# Altium schematic symbol library IC-Interface.SchLib: 18 symbols
Pins are listed as number, name and electrical type; pins without a type are passive.

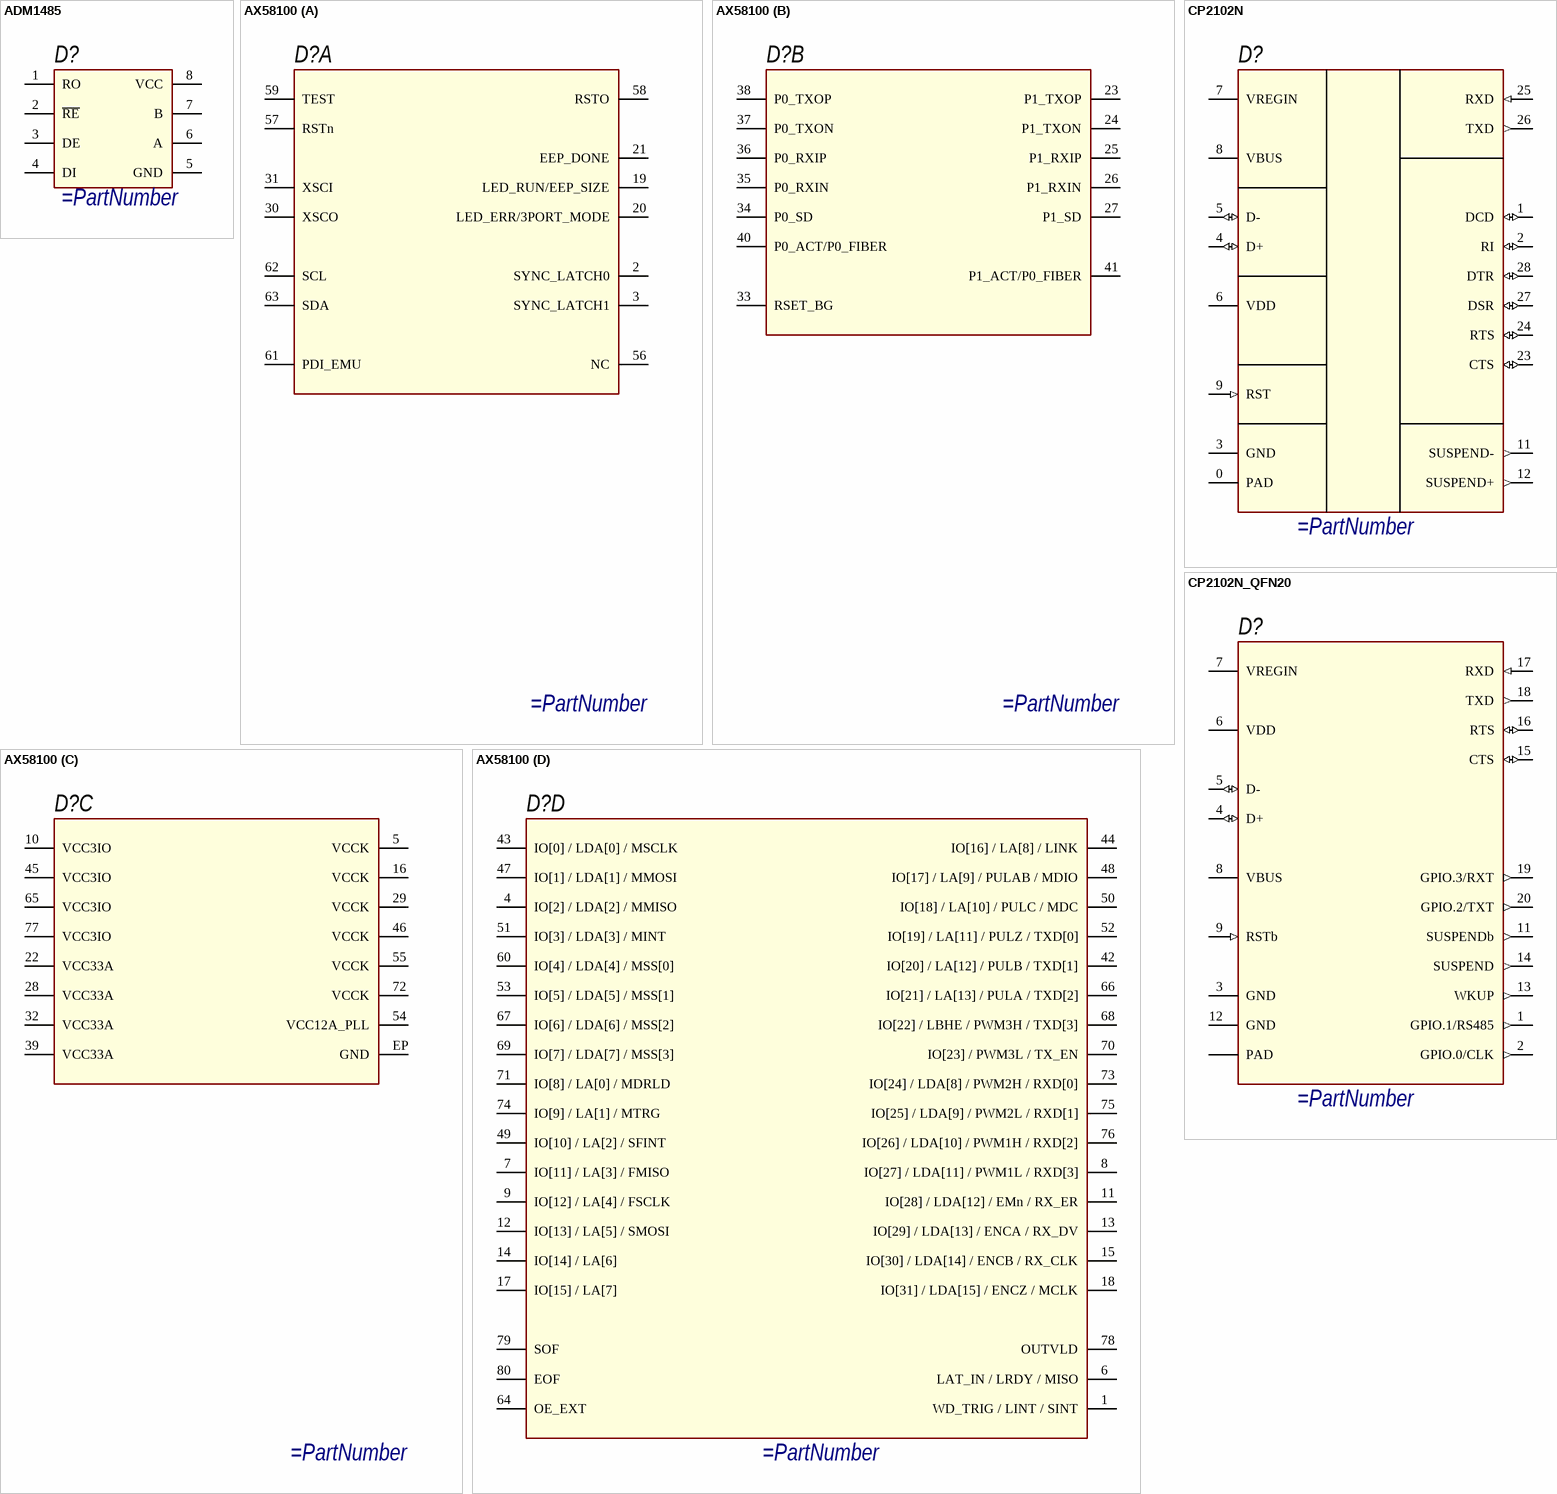
[diagram p0: symbols ADM1485 to CP2102N_QFN20]

## ADM1485
designator D?
pins: 1 RO, 2 ~{RE}, 3 DE, 4 DI, 5 GND, 6 A, 7 B, 8 VCC

## AX58100
designator D?
EtherCAT Slave Controller
part A pins: 2 SYNC_LATCH0, 3 SYNC_LATCH1, 19 LED_RUN/EEP_SIZE, 20 LED_ERR/3PORT_MODE, 21 EEP_DONE, 30 XSCO, 31 XSCI, 56 NC, 57 RSTn, 58 RSTO, 59 TEST, 61 PDI_EMU, 62 SCL, 63 SDA
part B pins: 23 P1_TXOP, 24 P1_TXON, 25 P1_RXIP, 26 P1_RXIN, 27 P1_SD, 33 RSET_BG, 34 P0_SD, 35 P0_RXIN, 36 P0_RXIP, 37 P0_TXON, 38 P0_TXOP, 40 P0_ACT/P0_FIBER, 41 P1_ACT/P0_FIBER
part C pins: 5 VCCK, 10 VCC3IO, 16 VCCK, 22 VCC33A, 28 VCC33A, 29 VCCK, 32 VCC33A, 39 VCC33A, 45 VCC3IO, 46 VCCK, 54 VCC12A_PLL, 55 VCCK, 65 VCC3IO, 72 VCCK, 77 VCC3IO, EP GND
part D pins: 1 WD_TRIG / LINT / SINT, 4 IO[2] / LDA[2] / MMISO, 6 LAT_IN / LRDY / MISO, 7 IO[11] / LA[3] / FMISO, 8 IO[27] / LDA[11] / PWM1L / RXD[3], 9 IO[12] / LA[4] / FSCLK, 11 IO[28] / LDA[12] / EMn / RX_ER, 12 IO[13] / LA[5] / SMOSI, 13 IO[29] / LDA[13] / ENCA / RX_DV, 14 IO[14] / LA[6], 15 IO[30] / LDA[14] / ENCB / RX_CLK, 17 IO[15] / LA[7], 18 IO[31] / LDA[15] / ENCZ / MCLK, 42 IO[20] / LA[12] / PULB / TXD[1], 43 IO[0] / LDA[0] / MSCLK, 44 IO[16] / LA[8] / LINK, 47 IO[1] / LDA[1] / MMOSI, 48 IO[17] / LA[9] / PULAB / MDIO, 49 IO[10] / LA[2] / SFINT, 50 IO[18] / LA[10] / PULC / MDC, 51 IO[3] / LDA[3] / MINT, 52 IO[19] / LA[11] / PULZ / TXD[0], 53 IO[5] / LDA[5] / MSS[1], 60 IO[4] / LDA[4] / MSS[0], 64 OE_EXT, 66 IO[21] / LA[13] / PULA / TXD[2], 67 IO[6] / LDA[6] / MSS[2], 68 IO[22] / LBHE / PWM3H / TXD[3], 69 IO[7] / LDA[7] / MSS[3], 70 IO[23] / PWM3L / TX_EN, 71 IO[8] / LA[0] / MDRLD, 73 IO[24] / LDA[8] / PWM2H / RXD[0], 74 IO[9] / LA[1] / MTRG, 75 IO[25] / LDA[9] / PWM2L / RXD[1], 76 IO[26] / LDA[10] / PWM1H / RXD[2], 78 OUTVLD, 79 SOF, 80 EOF

## CP2102N
designator D?
USB-to-UART
pins: 0 PAD, 1 DCD (io), 2 RI (io), 3 GND, 4 D+ (io), 5 D- (io), 6 VDD, 7 VREGIN, 8 VBUS, 9 RST (in), 11 SUSPEND- (out), 12 SUSPEND+ (out), 23 CTS (io), 24 RTS (io), 25 RXD (in), 26 TXD (out), 27 DSR (io), 28 DTR (io)

## CP2102N_QFN20
designator D?
USB-to-UART
pins: 1 GPIO.1/RS485 (out), 2 GPIO.0/CLK (out), 3 GND, 4 D+ (io), 5 D- (io), 6 VDD, 7 VREGIN, 8 VBUS, 9 RSTb (in), 11 SUSPENDb (out), 12 GND, 13 WKUP (out), 14 SUSPEND (out), 15 CTS (io), 16 RTS (io), 17 RXD (in), 18 TXD (out), 19 GPIO.3/RXT (out), 20 GPIO.2/TXT (out), EP PAD

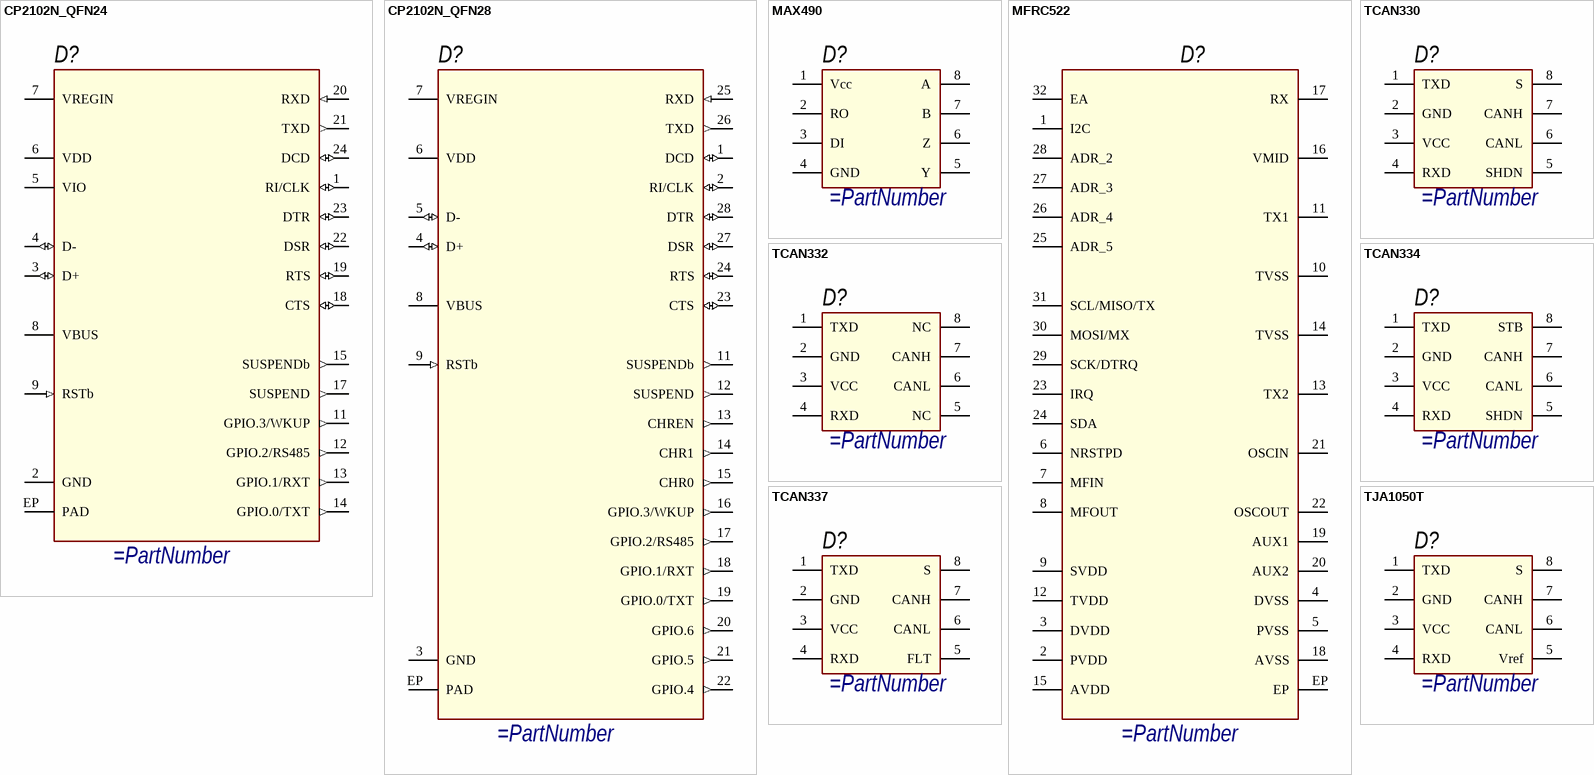
[diagram p1: symbols CP2102N_QFN24 to TJA1050T]

## CP2102N_QFN24
designator D?
USB-to-UART
pins: 1 RI/CLK (io), 2 GND, 3 D+ (io), 4 D- (io), 5 VIO, 6 VDD, 7 VREGIN, 8 VBUS, 9 RSTb (in), 11 GPIO.3/WKUP (out), 12 GPIO.2/RS485 (out), 13 GPIO.1/RXT (out), 14 GPIO.0/TXT (out), 15 SUSPENDb (out), 17 SUSPEND (out), 18 CTS (io), 19 RTS (io), 20 RXD (in), 21 TXD (out), 22 DSR (io), 23 DTR (io), 24 DCD (io), EP PAD

## CP2102N_QFN28
designator D?
USB-to-UART
pins: 1 DCD (io), 2 RI/CLK (io), 3 GND, 4 D+ (io), 5 D- (io), 6 VDD, 7 VREGIN, 8 VBUS, 9 RSTb (in), 11 SUSPENDb (out), 12 SUSPEND (out), 13 CHREN (out), 14 CHR1 (out), 15 CHR0 (out), 16 GPIO.3/WKUP (out), 17 GPIO.2/RS485 (out), 18 GPIO.1/RXT (out), 19 GPIO.0/TXT (out), 20 GPIO.6 (out), 21 GPIO.5 (out), 22 GPIO.4 (out), 23 CTS (io), 24 RTS (io), 25 RXD (in), 26 TXD (out), 27 DSR (io), 28 DTR (io), EP PAD

## MAX490
designator D?
pins: 1 Vcc, 2 RO, 3 DI, 4 GND, 5 Y, 6 Z, 7 B, 8 A

## MFRC522
designator D?
Standard performance MIFARE and NTAG frontend
pins: 1 I2C, 2 PVDD, 3 DVDD, 4 DVSS, 5 PVSS, 6 NRSTPD, 7 MFIN, 8 MFOUT, 9 SVDD, 10 TVSS, 11 TX1, 12 TVDD, 13 TX2, 14 TVSS, 15 AVDD, 16 VMID, 17 RX, 18 AVSS, 19 AUX1, 20 AUX2, 21 OSCIN, 22 OSCOUT, 23 IRQ, 24 SDA, 25 ADR_5, 26 ADR_4, 27 ADR_3, 28 ADR_2, 29 SCK/DTRQ, 30 MOSI/MX, 31 SCL/MISO/TX, 32 EA, EP

## TCAN330
designator D?
CAN transceiver
pins: 1 TXD, 2 GND, 3 VCC, 4 RXD, 5 SHDN, 6 CANL, 7 CANH, 8 S

## TCAN332
designator D?
CAN transceiver
pins: 1 TXD, 2 GND, 3 VCC, 4 RXD, 5 NC, 6 CANL, 7 CANH, 8 NC

## TCAN334
designator D?
CAN transceiver
pins: 1 TXD, 2 GND, 3 VCC, 4 RXD, 5 SHDN, 6 CANL, 7 CANH, 8 STB

## TCAN337
designator D?
CAN transceiver
pins: 1 TXD, 2 GND, 3 VCC, 4 RXD, 5 FLT, 6 CANL, 7 CANH, 8 S

## TJA1050T
designator D?
CAN transceiver
pins: 1 TXD, 2 GND, 3 VCC, 4 RXD, 5 Vref, 6 CANL, 7 CANH, 8 S

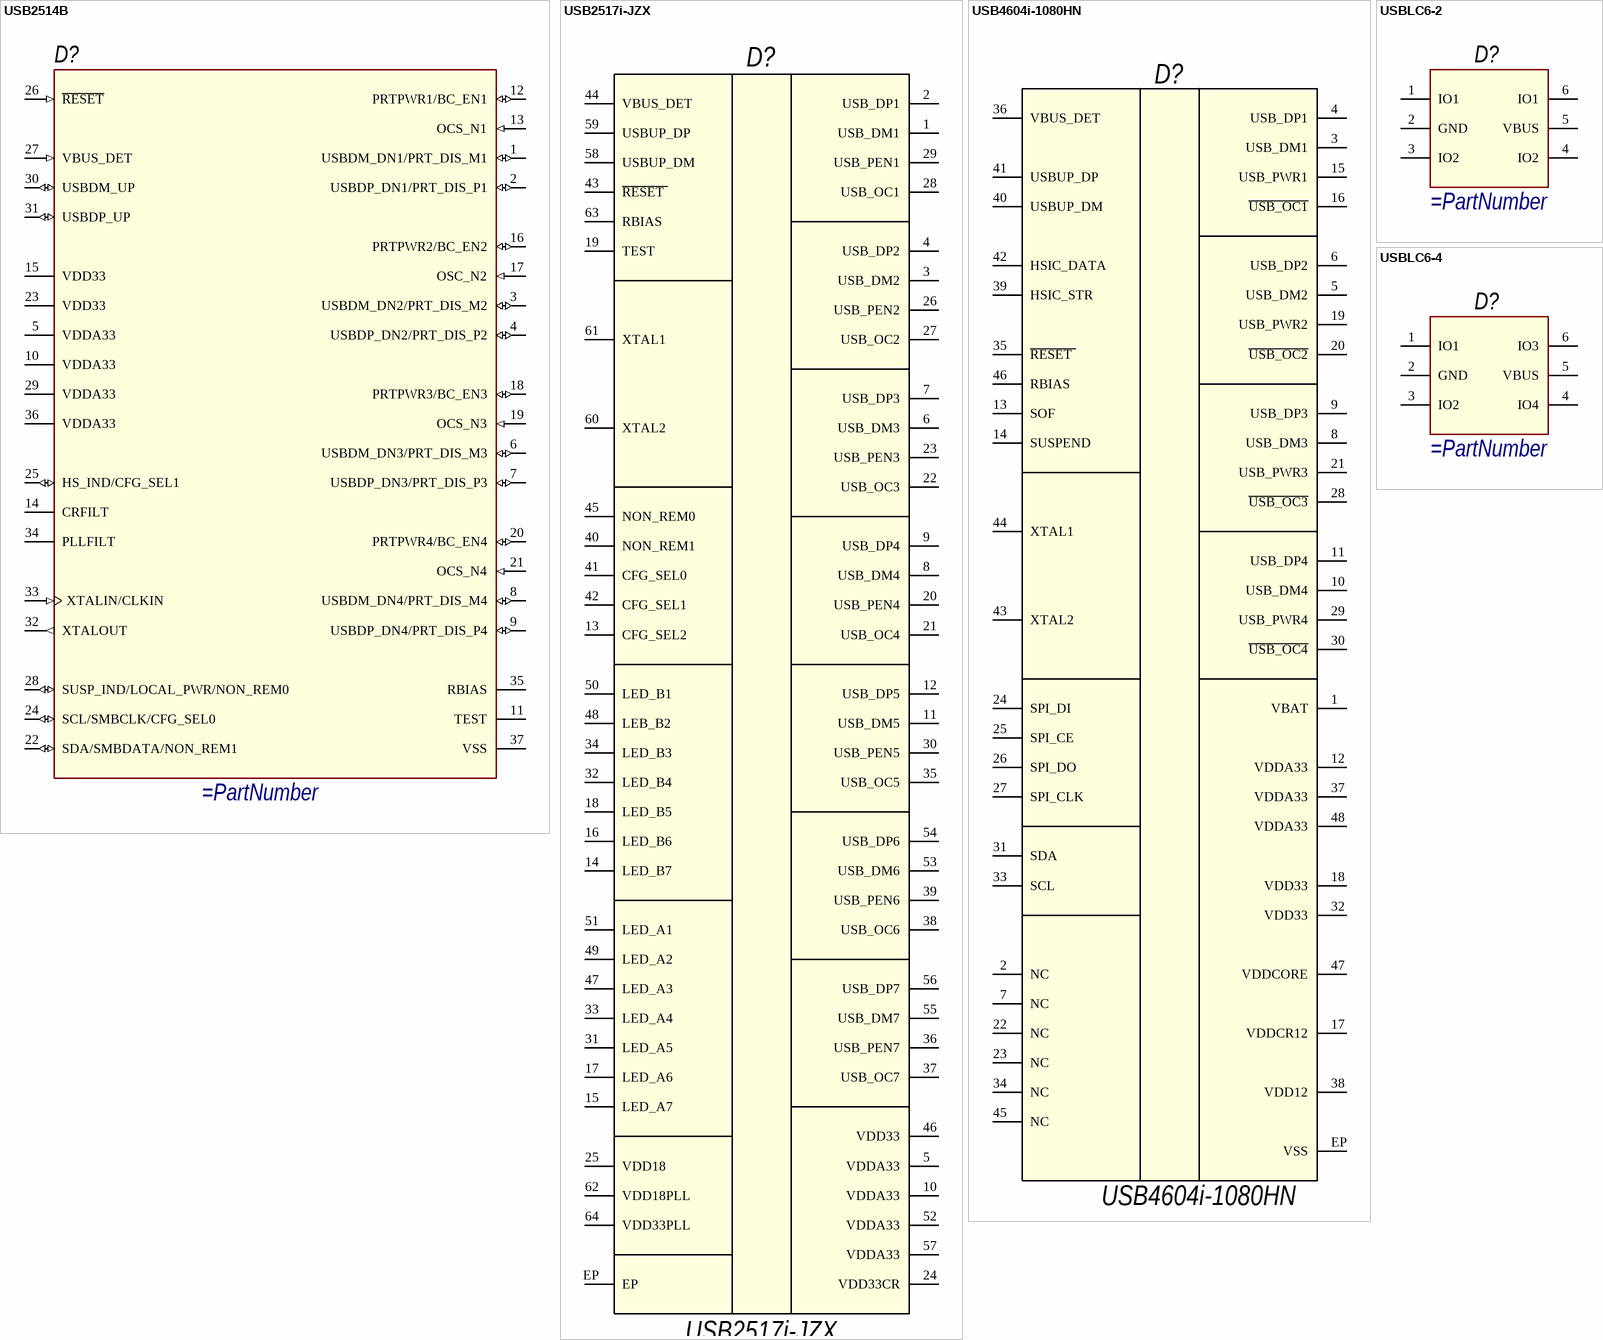
[diagram p2: symbols USB2514B to USBLC6-4]

## USB2514B
designator D?
USB 2.0 Hi-Speed 4-port Hub Controller
pins: 1 USBDM_DN1/PRT_DIS_M1 (io), 2 USBDP_DN1/PRT_DIS_P1 (io), 3 USBDM_DN2/PRT_DIS_M2 (io), 4 USBDP_DN2/PRT_DIS_P2 (io), 5 VDDA33 (power), 6 USBDM_DN3/PRT_DIS_M3 (io), 7 USBDP_DN3/PRT_DIS_P3 (io), 8 USBDM_DN4/PRT_DIS_M4 (io), 9 USBDP_DN4/PRT_DIS_P4 (io), 10 VDDA33 (power), 11 TEST, 12 PRTPWR1/BC_EN1 (io), 13 OCS_N1 (in), 14 CRFILT, 15 VDD33 (power), 16 PRTPWR2/BC_EN2 (io), 17 OSC_N2 (in), 18 PRTPWR3/BC_EN3 (io), 19 OCS_N3 (in), 20 PRTPWR4/BC_EN4 (io), 21 OCS_N4 (in), 22 SDA/SMBDATA/NON_REM1 (io), 23 VDD33 (power), 24 SCL/SMBCLK/CFG_SEL0 (io), 25 HS_IND/CFG_SEL1 (io), 26 ~{RESET} (in), 27 VBUS_DET (in), 28 SUSP_IND/LOCAL_PWR/NON_REM0 (io), 29 VDDA33 (power), 30 USBDM_UP (io), 31 USBDP_UP (io), 32 XTALOUT (out), 33 XTALIN/CLKIN (in), 34 PLLFILT, 35 RBIAS, 36 VDDA33 (power), 37 VSS (power)

## USB2517i-JZX
designator D?
USB 2.0 Hi-Speed 7-port Hub Controler; PartLabel: USB2517i-JZX каталог Microchip; PartNumber: USB2517i-JZX; Mount: Yes
footprint QFN-64_H (QFN, 64-Leads, Body 9.00x9.00mm, Pitch 0.50mm, Thermal Pad 4.70x4.70mm, IPC High Density)
footprint QFN-64_M (QFN, 64-Leads, Body 9.00x9.00mm, Pitch 0.50mm, Thermal Pad 4.70x4.70mm, IPC Medium Density)
footprint QFN-64_L (QFN, 64-Leads, Body 9.00x9.00mm, Pitch 0.50mm, Thermal Pad 4.70x4.70mm, IPC Low Density)
footprint QFN-64_ЭРИКОН (QFN, 64-Leads, Body 9.00x9.00mm, Pitch 0.50mm, Thermal Pad 4.70x4.70mm, ЭРИКОН)
pins: 1 USB_DM1, 2 USB_DP1, 3 USB_DM2, 4 USB_DP2, 5 VDDA33, 6 USB_DM3, 7 USB_DP3, 8 USB_DM4, 9 USB_DP4, 10 VDDA33, 11 USB_DM5, 12 USB_DP5, 13 CFG_SEL2, 14 LED_B7, 15 LED_A7, 16 LED_B6, 17 LED_A6, 18 LED_B5, 19 TEST, 20 USB_PEN4, 21 USB_OC4, 22 USB_OC3, 23 USB_PEN3, 24 VDD33CR, 25 VDD18, 26 USB_PEN2, 27 USB_OC2, 28 USB_OC1, 29 USB_PEN1, 30 USB_PEN5, 31 LED_A5, 32 LED_B4, 33 LED_A4, 34 LED_B3, 35 USB_OC5, 36 USB_PEN7, 37 USB_OC7, 38 USB_OC6, 39 USB_PEN6, 40 NON_REM1, 41 CFG_SEL0, 42 CFG_SEL1, 43 ~{RESET }, 44 VBUS_DET, 45 NON_REM0, 46 VDD33, 47 LED_A3, 48 LEB_B2, 49 LED_A2, 50 LED_B1, 51 LED_A1, 52 VDDA33, 53 USB_DM6, 54 USB_DP6, 55 USB_DM7, 56 USB_DP7, 57 VDDA33, 58 USBUP_DM, 59 USBUP_DP, 60 XTAL2, 61 XTAL1, 62 VDD18PLL, 63 RBIAS, 64 VDD33PLL, EP

## USB4604i-1080HN
designator D?
USB 2.0 HSIC Hi-Speed 4-port Hub Controler; PartLabel: USB4604i-1080HN каталог Microchip; Catalog: каталог Microchip; Type: Микросхема; PartNumber: USB4604i-1080HN; Mount: Yes; ComponentLink1Description: Component Link; ComponentLink1URL: https://www.microchip.com/wwwproducts/en/USB4604
footprint SQFN-48_H (SQFN, 48-Leads, Body 7,00x7,00mm, Pitch 0,50mm, Thermal Pad 4,10x4,10mm, IPC High Density)
footprint SQFN-48_M (SQFN, 48-Leads, Body 7,00x7,00mm, Pitch 0,50mm, Thermal Pad 4,10x4,10mm, IPC Medium Density)
footprint SQFN-48_L (SQFN, 48-Leads, Body 7,00x7,00mm, Pitch 0,50mm, Thermal Pad 4,10x4,10mm, IPC Low Density)
footprint SQFN-48_ЭРИКОН (SQFN, 48-Leads, Body 7,00x7,00mm, Pitch 0,50mm, Thermal Pad 4,10x4,10mm, ЭРИКОН)
pins: 1 VBAT, 2 NC, 3 USB_DM1, 4 USB_DP1, 5 USB_DM2, 6 USB_DP2, 7 NC, 8 USB_DM3, 9 USB_DP3, 10 USB_DM4, 11 USB_DP4, 12 VDDA33, 13 SOF, 14 SUSPEND, 15 USB_PWR1, 16 ~{USB_OC1}, 17 VDDCR12, 18 VDD33, 19 USB_PWR2, 20 ~{USB_OC2}, 21 USB_PWR3, 22 NC, 23 NC, 24 SPI_DI, 25 SPI_CE, 26 SPI_DO, 27 SPI_CLK, 28 ~{USB_OC3}, 29 USB_PWR4, 30 ~{USB_OC4}, 31 SDA, 32 VDD33, 33 SCL, 34 NC, 35 ~{RESET }, 36 VBUS_DET, 37 VDDA33, 38 VDD12, 39 HSIC_STR, 40 USBUP_DM, 41 USBUP_DP, 42 HSIC_DATA, 43 XTAL2, 44 XTAL1, 45 NC, 46 RBIAS, 47 VDDCORE, 48 VDDA33, EP VSS

## USBLC6-2
designator D?
pins: 1 IO1, 2 GND, 3 IO2, 4 IO2, 5 VBUS, 6 IO1

## USBLC6-4
designator D?
pins: 1 IO1, 2 GND, 3 IO2, 4 IO4, 5 VBUS, 6 IO3